# Altium footprint library Activos.PcbLib: 60 footprints (part 4 of 4)
Each footprint in its own frame and in the unit in brackets; x right, y up, seen from the top. Pads: shape width x height; smd on the part's side, far side on the other; paste and mask are expansions set on the pad; w line width, h text height; cw(c..) or ccw(c..) is an arc to the next point about the centre after c.
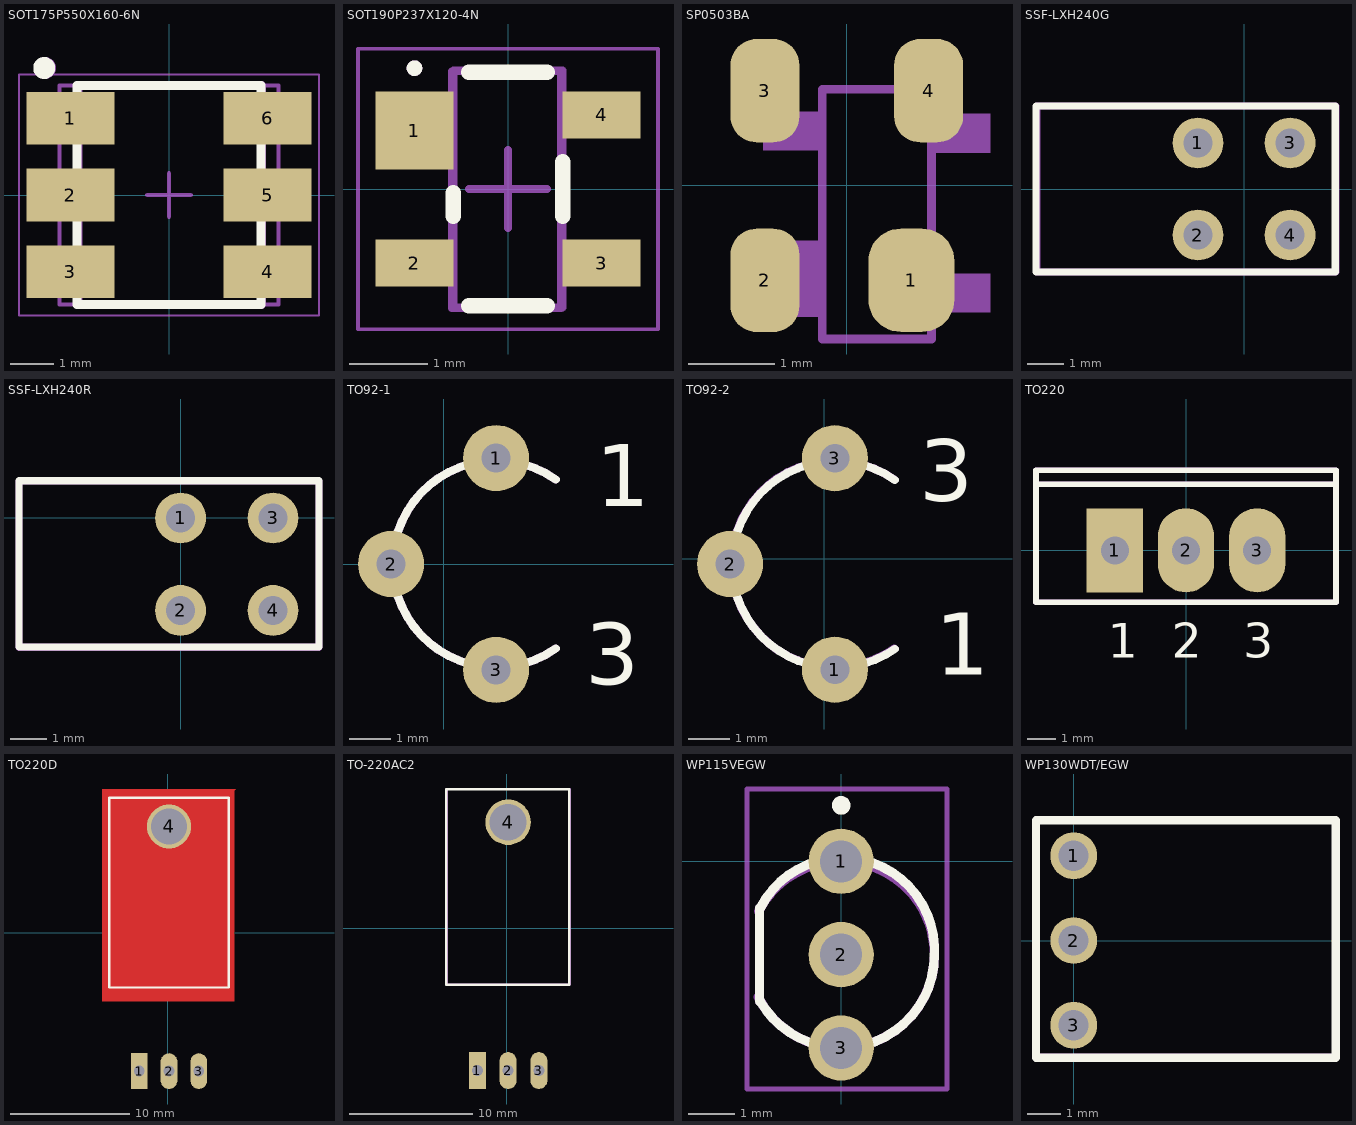
[diagram p3: the footprints below, top view; thin cyan lines are the x and y axes]

## SOT175P550X160-6N [mm] "SOT23, 6-Leads, Body 5,00x5,50mm, Pitch 1,75mm, IPC Medium Density"
height 1.6
pads (6):
  rect 2x1.2 smd: 1(-2.25,1.75) 2(-2.25,0) 3(-2.25,-1.75) 4(2.25,-1.75) 5(2.25,0) 6(2.25,1.75)
Top Overlay:
  circle w0.25: c-2.85,2.9 r0.125
  lines w0.2: -2.1,-2.5 2.1,-2.5 2.1,2.5 -2.1,2.5 -2.1,-2.5
Mechanical 13:
  lines w0.1: -2.5,-2.5 -2.5,2.5 2.5,2.5 2.5,-2.5 -2.5,-2.5
Mechanical 15:
  lines w0.05: -3.425,-2.75 -3.425,2.75 3.425,2.75 3.425,-2.75 -3.425,-2.75
  lines w0.1: -0.5,0 0.5,0 ; 0,-0.5 0,0.5
Mechanical 29:
  circle w0.25: c-2.83,2.9 r0.125
  lines w0.2: -2.08,-2.5 -2.08,2.5 2.12,2.5 2.12,-2.5 -2.08,-2.5
  text "'.Designator'" at -1.769,1.501 h0.5
3D body "SMD5060RGB.step": height 2, standoff 0, extent -2.7,-2.5 2.7,2.5

## SOT190P237X120-4N [mm] "SOT143, 4-Leads, Body 2,92x2,37mm, Pitch 1,90mm, IPC Medium Density"
height 1.2
pads (4):
  rect 1x1 smd: 1(-1.2,0.75)
  rect 1x0.6 smd: 2(-1.2,-0.95) 3(1.2,-0.95) 4(1.2,0.95)
Top Overlay:
  circle w0.1: c-1.2,1.55 r0.05
  lines w0.2: -0.7,-0.35 -0.7,-0.05 ; -0.5,-1.5 0.5,-1.5 ; -0.5,1.5 0.5,1.5 ; 0.7,-0.35 0.7,0.35
Mechanical 13:
  lines w0.1: -0.7,-1.52 0.7,-1.52 0.7,1.52 -0.7,1.52 -0.7,-1.52
Mechanical 15:
  lines w0.05: -1.925,-1.8 1.925,-1.8 1.925,1.8 -1.925,1.8 -1.925,-1.8
  lines w0.1: -0.5,0 0.5,0 ; 0,-0.5 0,0.5
Mechanical 29:
  circle w0.1: c-1.2,1.55 r0.05
  lines w0.1: -0.72,-1.53 -0.72,1.51 0.68,1.51 0.68,-1.53 -0.72,-1.53
  text "'.Designator'" at 0.26,-1.3 h0.5
3D body "SOT190P237X120-4N.step": height 1.2, standoff 0.01, extent -1.179,-1.52 1.179,1.52

## SP0503BA [mil] "TVS Avalanche Diode Array"
pads (4):
  rrect75% 39.37x47.24 smd: 1(29.53,-43.31)
  rrect75% 31.5x47.24 smd: 2(-37.4,-43.31) 3(-37.4,43.31) 4(37.4,43.31)
Mechanical 29:
  text "'.Designator'" at -51.01,-10.66 h19.68
Mechanical 30:
  region: -11.29,15.88 -11.29,33.88 -38.29,33.88 -38.29,15.88
  region: 65.71,14.88 65.71,32.88 38.71,32.88 38.71,14.88
  region: 65.71,-58.12 65.71,-40.12 38.71,-40.12 38.71,-58.12
  region: -11.29,-60.12 -11.29,-25.12 -38.29,-25.12 -38.29,-60.12
  lines w3.94: -11.29,-70.13 -11.29,43.89 38.71,43.89 38.71,-70.13 -11.29,-70.13

## SSF-LXH240G [mm] "Led CBI 2x1 3mm"
pads (4):
  round 1.4 hole 0.8: 1(-1.27,1.27) 2(-1.27,-1.27) 3(1.27,1.27) 4(1.27,-1.27)
Top Overlay:
  lines w0.2: -5.735,-2.286 -5.735,2.286 2.515,2.286 2.515,-2.286 -5.735,-2.286
Mechanical 29:
  lines w0.2: -5.715,-2.286 2.535,-2.286 2.535,2.286 -5.715,2.286 -5.715,-2.286
  text "'.Designator'" at -5.326,-0.181 h0.5
3D body "Lumex SSF-LXH240GGD.step": height 9.67, standoff -2.98, extent -8.382,-2.159 2.388,2.161

## SSF-LXH240R [mm]
pads (4):
  round 1.4 hole 0.8: 1(0,0) 2(0,-2.54) 3(2.54,0) 4(2.54,-2.54)
Top Overlay:
  lines w0.2: -4.445,-3.546 3.805,-3.546 3.805,1.026 -4.445,1.026 -4.445,-3.546
Mechanical 29:
  lines w0.2: -4.445,-3.556 -4.445,1.016 3.805,1.016 3.805,-3.556 -4.445,-3.556
  text "'.Designator'" at -4.066,-1.501 h0.5
3D body "Lumex SSF-LXH240RGD.STEP": height 2.55, standoff -10.1, extent -7.087,-3.43 3.683,0.89

## TO92-1 [mm] "2N7000"
pads (3):
  round 1.6 hole 0.7: 1(1.27,2.56) 2(-1.27,0) 3(1.27,-2.56)
Top Overlay:
  lines w0.2: 2.708,-2.045 cw(c1.27,0) 2.708,2.045
  text "1" at 3.683,1.397 h1.5
  text "3" at 3.429,-2.921 h1.5
Mechanical 29:
  lines w0.2: 2.708,-2.045 cw(c1.27,0) 2.708,2.045
  text "3" at 3.429,-2.921 h1.5
  text "1" at 3.683,1.397 h1.5
  text "'.Designator'" at -0.166,-0.301 h0.5
3D body "TO-92D.step": height 8, standoff -3.02, extent -1.546,-2.787 2.794,2.787

## TO92-2 [mm] "BCXX, 2N3904"
pads (3):
  round 1.6 hole 0.7: 1(0.254,-2.687) 2(-2.286,-0.127) 3(0.254,2.433)
Top Overlay:
  lines w0.2: 1.702,-2.182 cw(c0.264,-0.137) 1.702,1.908
  text "3" at 2.296,1.387 h1.5
  text "1" at 2.677,-2.804 h1.5
Mechanical 29:
  lines w0.2: 1.692,-2.172 cw(c0.254,-0.127) 1.692,1.918
  text "1" at 2.667,-2.794 h1.5
  text "3" at 2.286,1.397 h1.5
  text "'.Designator'" at -1.766,-0.171 h0.5
3D body "TO-92D.step": height 8, standoff -3.02, extent -2.562,-2.914 1.778,2.66

## TO220 [mm]
pads (3):
  rect 2x3 hole 1: 1(-2.54,0)
  oval 2x3 hole 1: 2(0,0) 3(2.54,0)
Top Overlay:
  lines w0.2: -5.35,2.35 5.35,2.35 ; -5.35,-1.85 -5.35,2.85 5.35,2.85 5.35,-1.85 -5.35,-1.85
  text "2" at -0.5,-3.825 h1.24
  text "1" at -2.79,-3.825 h1.24
  text "3" at 2.04,-3.825 h1.24
Mechanical 29:
  lines w0.2: -5.35,2.35 5.35,2.35 ; -5.35,-1.85 5.35,-1.85 5.35,2.85 -5.35,2.85 -5.35,-1.85
  text "'.Designator'" at -4.746,-0.181 h0.5
  text "3" at 2.04,-3.825 h1.24
  text "1" at -2.79,-3.825 h1.24
  text "2" at -0.5,-3.825 h1.24
3D body "TO-220.STEP": height 1.98, standoff -23.8, extent -4.95,-2.087 4.95,2.413

## TO220D [mm]
pads (4):
  rect 1.4x3 hole 0.9: 1(-2.393,-11.581)
  oval 1.4x3 hole 0.9: 2(0.107,-11.581) 3(2.607,-11.581)
  round 3.7 hole 3: 4(0.107,8.919)
Top Layer:
  region: -5.481,12.056 5.695,12.056 5.568,11.929 5.568,-5.724 -5.481,-5.724
Top Overlay:
  lines w0.2: -4.893,-4.581 -4.893,11.319 5.107,11.319 5.107,-4.581 0.107,-4.581 -4.893,-4.581
Mechanical 29:
  lines w0.2: -4.893,-4.581 0.107,-4.581 5.107,-4.581 5.107,11.319 -4.893,11.319 -4.893,-4.581
  text "'.Designator'" at 0.161,-4.566 h0.5
3D body "T0220-A.STEP": height 4, standoff -0.74, extent -4.881,-11.759 5.119,11.391

## TO-220AC2 [mm]
pads (4):
  rect 1.4x3 hole 0.9: 1(-2.393,-11.581)
  oval 1.4x3 hole 0.9: 2(0.107,-11.581) 3(2.607,-11.581)
  round 3.7 hole 3: 4(0.107,8.619)
Top Overlay:
  lines w0.2: -4.913,-4.601 -4.913,11.299 5.087,11.299 5.087,-4.601 0.087,-4.601 -4.913,-4.601
Mechanical 29:
  lines w0.2: -4.893,-4.581 0.107,-4.581 5.107,-4.581 5.107,11.319 -4.893,11.319 -4.893,-4.581
  text "'.Designator'" at 0.211,-2.386 h0.5
3D body "T0220-A.STEP": height 4, standoff -0.74, extent -4.881,-11.759 5.119,11.391

## WP115VEGW [mm] "Bicolor de 3mm"
pads (3):
  round 1.4 hole 0.9: 1(0,0) 2(0,-2) 3(0,-4)
Top Overlay:
  lines w0.2: -1.75,-3 -1.75,-1 ; -1.736,-2.992 ccw(c0,-2) 2,-2 ; -1.735,-1 cw(c0.024,-1.9) 1.993,-2.069 ; -0.1,1.2 ccw(c0,1.2) 0.1,1.2 ccw(c0,1.2) -0.1,1.2
Mechanical 13:
  lines w0.2: -1.783,-2.907 ccw(c0,-2) 2,-2 ccw(c0,-2) -1.772,-1.073 ; -1.75,-3 -1.75,-1
Mechanical 15:
  lines w0.1: -2.02,-4.88 2.27,-4.88 2.27,1.55 -2.02,1.55 -2.02,-4.88
3D body "115V.STEP": height 11.8, standoff -1.2, extent -1.5,-4.37 2,0.33

## WP130WDT/EGW [mm] "LED IND RA 3MM RED/GRN WHT DIFF"
pads (3):
  round 1.4 hole 0.9: 1(0,2.54) 2(0,0) 3(0,-2.54)
Top Overlay:
  lines w0.254: -1.13,-3.51 -1.13,3.6 7.85,3.6 7.85,-3.51 -1.13,-3.51
Mechanical 15:
  lines w0.1: -1.13,-3.43 7.86,-3.43 7.86,3.55 -1.13,3.55 -1.13,-3.43
3D body "130WDT.STEP": height 4.96, standoff -3.5, extent -1.195,-3.5 7.855,3.5